# EAGLE library part ISO6741DWR (library ISO6741DWR)
ISO674x General Purpose Quad Channel Digital Isolators with Robust EMC Source: Datasheet <https://www.ti.com/lit/ds/symlink/iso6741.pdf?ts=1612957387403&ref_url=https%3A%2F%2Fwww.mouser.co.uk%2F>
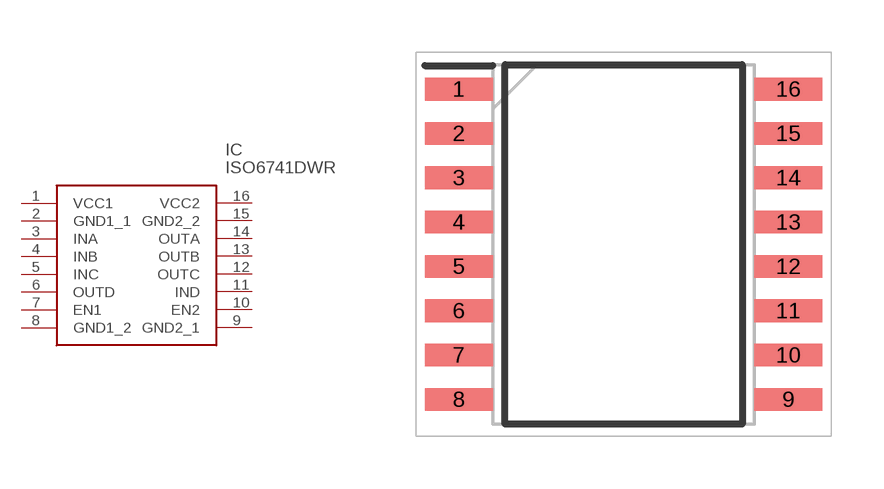
[diagram p0: symbol with the pads of SOIC127P1030X265-16N; footprint SOIC127P1030X265-16N]

Designator prefix IC

## ISO6741DWR (Description: ISO674x General Purpose Quad Channel Digital Isolators with Robust EMC; Height: 2.65mm; Manufacturer_Name: Texas Instruments; Manufacturer_Part_Number: ISO6741DWR; Mouser_Part_Number: 595-ISO6741DWR; Mouser_Price-Stock: https://www.mouser.co.uk/ProductDetail/Texas-Instruments/ISO6741DWR?qs=eP2BKZSCXI5uF%252B1Ns5yk%2Fw%3D%3D)  [SOIC127P1030X265-16N]
1  VCC1
2  GND1_1
3  INA
4  INB
5  INC
6  OUTD
7  EN1
8  GND1_2
9  GND2_1
10  EN2
11  IND
12  OUTC
13  OUTB
14  OUTA
15  GND2_2
16  VCC2

## Footprint SOIC127P1030X265-16N (pad centres in mm)
DW0016A
smd 1.95 x 0.65: 1 -4.725,4.445; 2 -4.725,3.175; 3 -4.725,1.905; 4 -4.725,0.635; 5 -4.725,-0.635; 6 -4.725,-1.905; 7 -4.725,-3.175; 8 -4.725,-4.445; 9 4.725,-4.445; 10 4.725,-3.175; 11 4.725,-1.905; 12 4.725,-0.635; 13 4.725,0.635; 14 4.725,1.905; 15 4.725,3.175; 16 4.725,4.445